# EAGLE library part BMP384 (library FlashPCB_Sensors)
BMP380 - Pressure Sensor IC Technical Specifications: Description: Pressure Sensor 4.35 ~ 18.13PSI (30 ~ 125kPa) Pressure Type: Absolute Output Type: I2C, SPIT Accuracy: +/- 0.05kPa Voltage Supply: 1.65V ~ 3.6V Component Search: BMP384 <[FLASHPCB URL]> Datasheet: Newsletter-Template-DE <https://media.digikey.com/pdf/Data%20Sheets/Bosch/bst-bmp384-ds003.pdf>
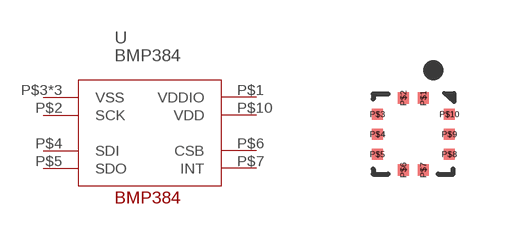
[diagram p7: symbol with the pads of 10-LGA(2X2); footprint 10-LGA(2X2)]

Designator prefix U

## BMP384  [10-LGA(2X2)]
P$1  VDDIO
P$2  SCK
P$3  VSS
P$4  SDI
P$5  SDO
P$6  CSB
P$7  INT
P$8  VSS
P$9  VSS
P$10  VDD

## Footprint 10-LGA(2X2) (pad centres in mm)
smd 0.27 x 0.285: P$1 0.25,0.9; P$2 -0.25,0.9; P$6 -0.25,-0.9; P$7 0.25,-0.9
smd 0.285 x 0.27: P$3 -0.9,0.5; P$4 -0.9,0; P$5 -0.9,-0.5; P$8 0.9,-0.5; P$9 0.9,0; P$10 0.9,0.5